# Altium schematic symbol library STM32G071G8U6.SchLib: 1 symbol
Pins are listed as number, name and electrical type; pins without a type are passive.

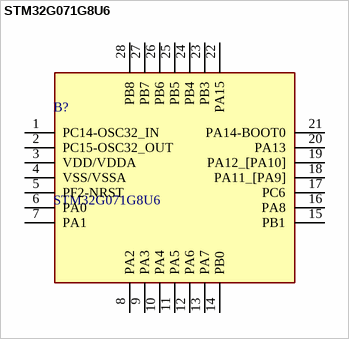
[diagram p0: symbol STM32G071G8U6]

## STM32G071G8U6
designator B?
Arm Cortex-M0+ 32-bit MCU, up to 128 KB Flash, 36 KB RAM, 4x USART, timers, ADC, DAC, comm. I/Fs, 1.7-3.6V; Manufacturer_Name: STMicroelectronics; Geometry.Height: 0.6mm; Manufacturer_Part_Number: STM32G071G8U6; Mouser Part Number: 511-STM32G071G8U6; Mouser Price/Stock: https://www.mouser.co.uk/ProductDetail/STMicroelectronics/STM32G071G8U6?qs=l7cgNqFNU1h6sPpCoQAi5w%3D%3D; Arrow Part Number: STM32G071G8U6; Arrow Price/Stock: https://www.arrow.com/en/products/stm32g071g8u6/stmicroelectronics.html?utm_currency=USD&region=nac; Datasheet Link: https://www.st.com/resource/en/datasheet/stm32g071c8.pdf
footprint QFN50P400X400X60-28N-D
pins: 1 PC14-OSC32_IN, 2 PC15-OSC32_OUT, 3 VDD/VDDA, 4 VSS/VSSA, 5 PF2-NRST, 6 PA0, 7 PA1, 8 PA2, 9 PA3, 10 PA4, 11 PA5, 12 PA6, 13 PA7, 14 PB0, 15 PB1, 16 PA8, 17 PC6, 18 PA11_[PA9], 19 PA12_[PA10], 20 PA13, 21 PA14-BOOT0, 22 PA15, 23 PB3, 24 PB4, 25 PB5, 26 PB6, 27 PB7, 28 PB8